# EAGLE library part PIC24FJ256GB110 (library microchip-custom)
PIC24FJ256GB110 edit this description Auto generated by make-symbol-device-package-bsdl.ulp Rev. 25 Source: PIC24FJ256GB110.bsd
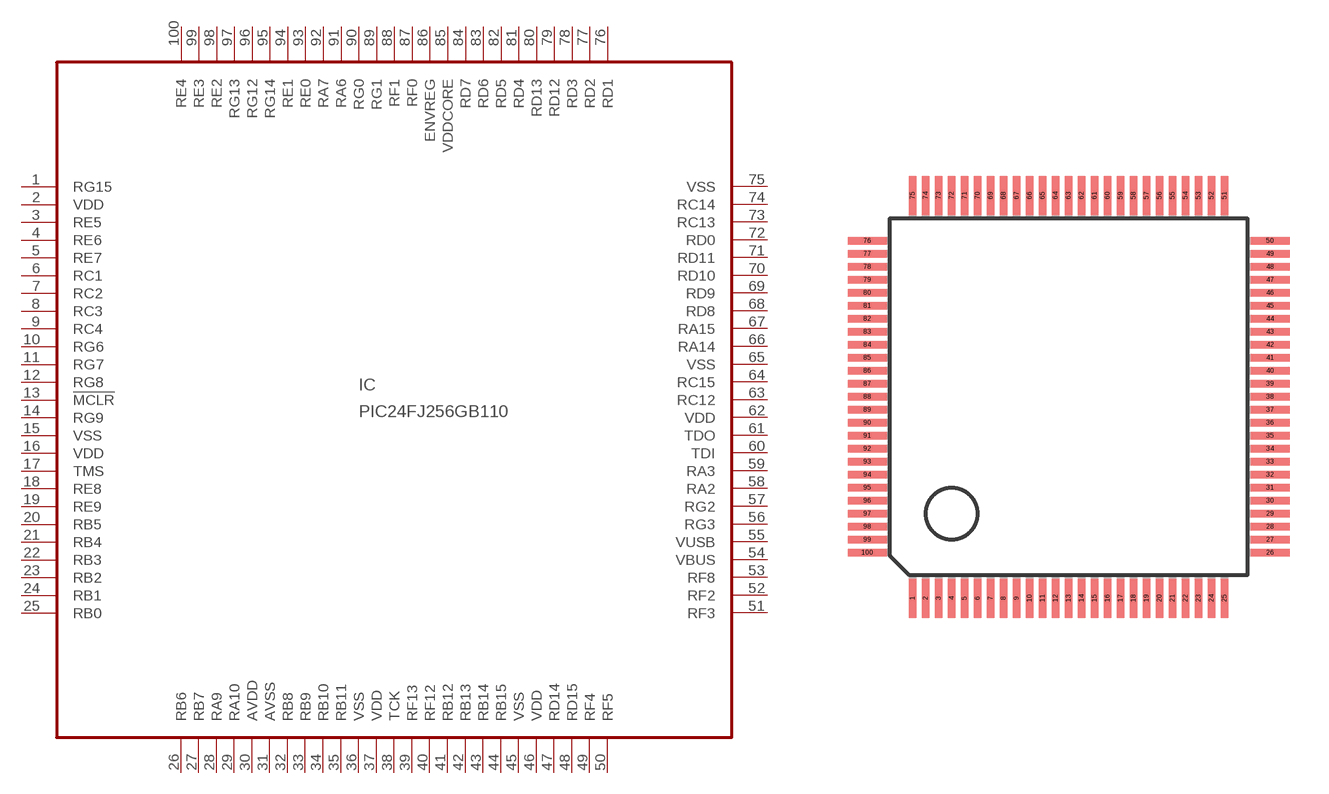
[diagram p96: symbol with the pads of TQFP100-14X14; footprint TQFP100-14X14]

Designator prefix IC

## PIC24FJ256GB110 (MPN: PIC24FJ256GB110-I/PF; OC_FARNELL: 1576870; OC_NEWARK: 54M5133)  [TQFP100-14X14]
1  RG15
2  VDD  pwr
3  RE5
4  RE6
5  RE7
6  RC1
7  RC2
8  RC3
9  RC4
10  RG6
11  RG7
12  RG8
13  !MCLR
14  RG9
15  VSS  pwr
16  VDD  pwr
17  TMS  in
18  RE8
19  RE9
20  RB5
21  RB4
22  RB3
23  RB2
24  RB1
25  RB0
26  RB6
27  RB7
28  RA9
29  RA10
30  AVDD  pwr
31  AVSS  pwr
32  RB8
33  RB9
34  RB10
35  RB11
36  VSS  pwr
37  VDD  pwr
38  TCK  in
39  RF13
40  RF12
41  RB12
42  RB13
43  RB14
44  RB15
45  VSS  pwr
46  VDD  pwr
47  RD14
48  RD15
49  RF4
50  RF5
51  RF3
52  RF2
53  RF8
54  VBUS  pas
55  VUSB  pas
56  RG3
57  RG2
58  RA2
59  RA3
60  TDI  in
61  TDO  out
62  VDD  pwr
63  RC12
64  RC15
65  VSS  pwr
66  RA14
67  RA15
68  RD8
69  RD9
70  RD10
71  RD11
72  RD0
73  RC13
74  RC14
75  VSS  pwr
76  RD1
77  RD2
78  RD3
79  RD12
80  RD13
81  RD4
82  RD5
83  RD6
84  RD7
85  VDDCORE  pwr
86  ENVREG  pas
87  RF0
88  RF1
89  RG1
90  RG0
91  RA6
92  RA7
93  RE0
94  RE1
95  RG14
96  RG12
97  RG13
98  RE2
99  RE3
100  RE4

## Footprint TQFP100-14X14 (pad centres in mm)
Thin Quad Flat Pack 14x14 mm
smd 0.27 x 1.5: 1 -6,-7.75; 2 -5.5,-7.75; 3 -5,-7.75; 4 -4.5,-7.75; 5 -4,-7.75; 6 -3.5,-7.75; 7 -3,-7.75; 8 -2.5,-7.75; 9 -2,-7.75; 10 -1.5,-7.75; 11 -1,-7.75; 12 -0.5,-7.75; 13 0,-7.75; 14 0.5,-7.75; 15 1,-7.75; 16 1.5,-7.75; 17 2,-7.75; 18 2.5,-7.75; 19 3,-7.75; 20 3.5,-7.75; 21 4,-7.75; 22 4.5,-7.75; 23 5,-7.75; 24 5.5,-7.75; 25 6,-7.75; 51 6,7.75; 52 5.5,7.75; 53 5,7.75; 54 4.5,7.75; 55 4,7.75; 56 3.5,7.75; 57 3,7.75; 58 2.5,7.75; 59 2,7.75; 60 1.5,7.75; 61 1,7.75; 62 0.5,7.75; 63 0,7.75; 64 -0.5,7.75; 65 -1,7.75; 66 -1.5,7.75; 67 -2,7.75; 68 -2.5,7.75; 69 -3,7.75; 70 -3.5,7.75; 71 -4,7.75; 72 -4.5,7.75; 73 -5,7.75; 74 -5.5,7.75; 75 -6,7.75
smd 1.5 x 0.27: 26 7.75,-6; 27 7.75,-5.5; 28 7.75,-5; 29 7.75,-4.5; 30 7.75,-4; 31 7.75,-3.5; 32 7.75,-3; 33 7.75,-2.5; 34 7.75,-2; 35 7.75,-1.5; 36 7.75,-1; 37 7.75,-0.5; 38 7.75,0; 39 7.75,0.5; 40 7.75,1; 41 7.75,1.5; 42 7.75,2; 43 7.75,2.5; 44 7.75,3; 45 7.75,3.5; 46 7.75,4; 47 7.75,4.5; 48 7.75,5; 49 7.75,5.5; 50 7.75,6; 76 -7.75,6; 77 -7.75,5.5; 78 -7.75,5; 79 -7.75,4.5; 80 -7.75,4; 81 -7.75,3.5; 82 -7.75,3; 83 -7.75,2.5; 84 -7.75,2; 85 -7.75,1.5; 86 -7.75,1; 87 -7.75,0.5; 88 -7.75,0; 89 -7.75,-0.5; 90 -7.75,-1; 91 -7.75,-1.5; 92 -7.75,-2; 93 -7.75,-2.5; 94 -7.75,-3; 95 -7.75,-3.5; 96 -7.75,-4; 97 -7.75,-4.5; 98 -7.75,-5; 99 -7.75,-5.5; 100 -7.75,-6